# Altium footprint library Discretes.PcbLib: 56 footprints (part 3 of 4)
Each footprint in its own frame and in the unit in brackets; x right, y up, seen from the top. Pads: shape width x height; smd on the part's side, far side on the other; paste and mask are expansions set on the pad; w line width, h text height; cw(c..) or ccw(c..) is an arc to the next point about the centre after c.
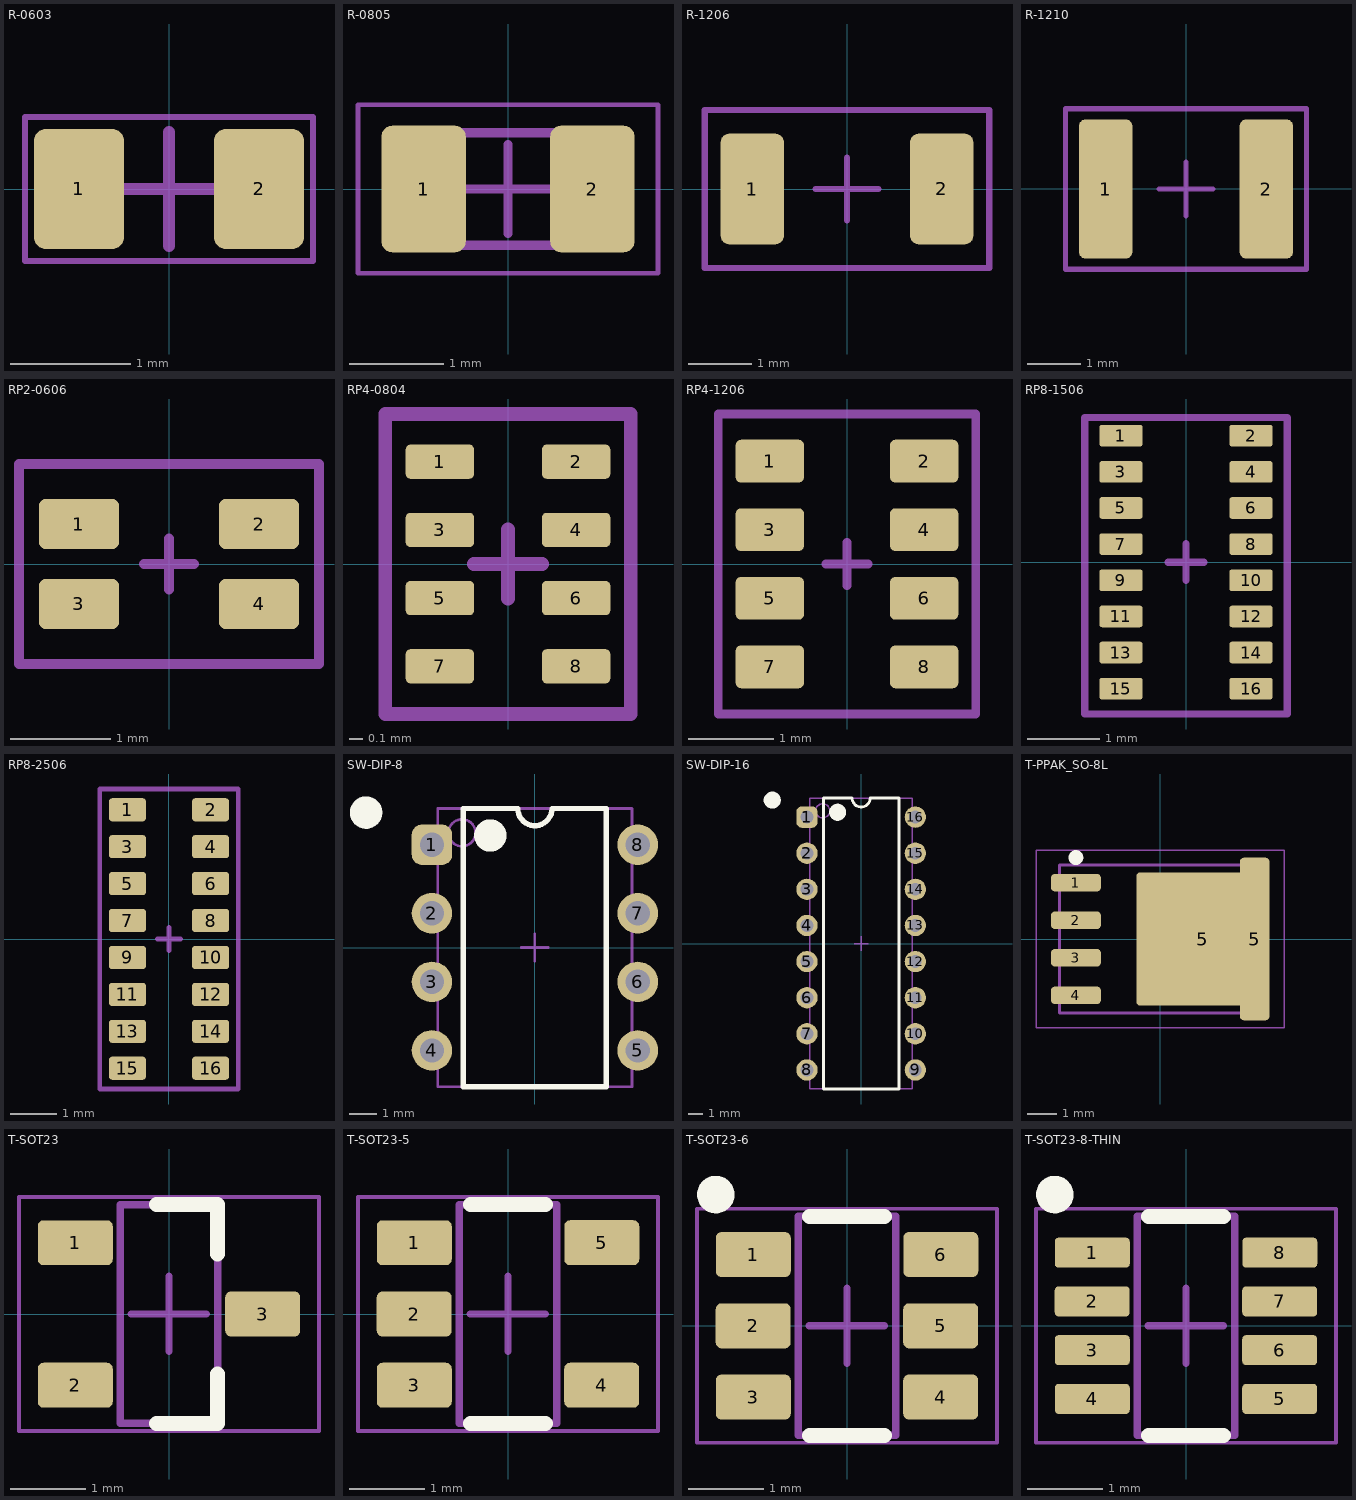
[diagram p2: the footprints below, top view; thin cyan lines are the x and y axes]

## R-0603 [mm] "SMD Resistor 0603"
height 0.5
pads (2):
  rrect25% 0.75x1 smd: 1(-0.75,0) 2(0.75,0)
Mechanical 15:
  lines w0.05: -1.2,-0.6 1.2,-0.6 1.2,0.6 -1.2,0.6 -1.2,-0.6
  lines w0.1: -0.475,0 0.475,0 ; 0,-0.475 0,0.475
3D body "R_0603_1608Metric.step": height 0.45, standoff 0, extent -0.8,-0.4 0.8,0.4

## R-0805 [mm] "SMD Resistor 0805"
height 1
pads (2):
  rrect25% 0.9x1.35 smd: 1(-0.9,0) 2(0.9,0)
Mechanical 13:
  lines w0.1: -1,-0.6 1,-0.6 1,0.6 -1,0.6 -1,-0.6
Mechanical 15:
  lines w0.05: -1.6,-0.9 1.6,-0.9 1.6,0.9 -1.6,0.9 -1.6,-0.9
  lines w0.1: -0.475,0 0.475,0 ; 0,-0.475 0,0.475
3D body "R_0805_2012Metric.step": height 0.45, standoff 0, extent -1,-0.6 1,0.6

## R-1206 [mm] "SMD Resistor 1206"
height 4
pads (2):
  rrect25% 1x1.75 smd: 1(-1.5,0) 2(1.5,0)
Mechanical 15:
  lines w0.1: -0.5,0 0.5,0 ; 0,-0.5 0,0.5 ; -2.25,-1.25 -2.25,1.25 2.25,1.25 2.25,-1.25 -2.25,-1.25
3D body "R_1206_3216Metric.step": height 0.55, standoff 0, extent -1.6,-0.8 1.6,0.8

## R-1210 [mm] "SMD Resistor 1210"
height 4
pads (2):
  rrect25% 1x2.6 smd: 1(-1.5,0) 2(1.5,0)
Mechanical 15:
  lines w0.1: -0.5,0 0.5,0 ; 0,-0.5 0,0.5 ; -2.25,-1.5 -2.25,1.5 2.25,1.5 2.25,-1.5 -2.25,-1.5
3D body "R_1210_3225Metric.step": height 0.55, standoff 0, extent -1.6,-1.25 1.6,1.25

## RP2-0606 [mm] "Resistor Pack, Body 1.6x1.6mm, 2x0603, IPC Medium Density"
height 0.7
pads (4):
  rrect25% 0.8x0.5 smd: 1(-0.9,0.4) 2(0.9,0.4) 3(-0.9,-0.4) 4(0.9,-0.4)
Top Solder:
  region: 1.3,0.5 0.5,0.5 0.5,-0.5 1.3,-0.5
  rectangle: -1.3,-0.5 -0.5,0.5
Mechanical 15:
  lines w0.1: -0.25,0 0.25,0 ; 0,-0.254 0,0.254 ; -1.5,-1 1.5,-1 1.5,1 -1.5,1 -1.5,-1
3D body "User Library-742C043.step": height 0.53, standoff -0.03, extent -0.8,-0.8 0.8,0.8

## RP4-0804 [mm] "Resistor Pack, Body 1.0x2.0mm"
height 0.7
pads (8):
  rrect25% 0.5x0.25 smd: 1(-0.5,0.75) 2(0.5,0.75) 3(-0.5,0.25) 4(0.5,0.25) 5(-0.5,-0.25) 6(0.5,-0.25) 7(-0.5,-0.75) 8(0.5,-0.75)
Mechanical 15:
  lines w0.1: -0.25,0 0.25,0 ; 0,-0.254 0,0.254 ; -0.9,-1.1 -0.9,1.1 0.9,1.1 0.9,-1.1 -0.9,-1.1
3D body "R_Array_Concave_4x0402.step": height 0.45, standoff 0, extent -0.5,-1 0.5,1

## RP4-1206 [mm] "Resistor Pack, Body 1.6x3.2mm, 4x0603, IPC Medium Density"
height 0.7
pads (8):
  rrect25% 0.8x0.5 smd: 1(-0.9,1.2) 2(0.9,1.2) 3(-0.9,0.4) 4(0.9,0.4) 5(-0.9,-0.4) 6(0.9,-0.4) 7(-0.9,-1.2) 8(0.9,-1.2)
Top Solder:
  region: 1.3,1.2 0.5,1.2 0.5,-1.2 1.3,-1.2
  rectangle: -1.3,-1.2 -0.5,1.2
Mechanical 15:
  lines w0.1: -0.25,0 0.25,0 ; 0,-0.254 0,0.254 ; -1.5,-1.75 1.5,-1.75 1.5,1.75 -1.5,1.75 -1.5,-1.75
3D body "User Library-742C083.step": height 0.53, standoff -0.03, extent -0.8,-1.6 0.8,1.6

## RP8-1506 [mm] "Resistor Pack, Body 3.8x1.6mm"
height 0.7
pads (16):
  rrect25% 0.6x0.3 smd: 1(-0.9,1.75) 2(0.9,1.75) 3(-0.9,1.25) 4(0.9,1.25) 5(-0.9,0.75) 6(0.9,0.75) 7(-0.9,0.25) 8(0.9,0.25) 9(-0.9,-0.25) 10(0.9,-0.25) 11(-0.9,-0.75) 12(0.9,-0.75) 13(-0.9,-1.25) 14(0.9,-1.25) 15(-0.9,-1.75) 16(0.9,-1.75)
Mechanical 15:
  lines w0.1: -0.25,0 0.25,0 ; 0,-0.254 0,0.254 ; -1.4,-2.1 -1.4,2 1.4,2 1.4,-2.1 -1.4,-2.1
3D body "User Library-CAC-50P380X160-16N.STEP": height 0.55, standoff 0, extent -0.9,-1.95 0.9,1.95

## RP8-2506 [mm] "Resistor Pack, Body 1.6x3.2mm, 8x0603, IPC Medium Density"
height 0.7
pads (16):
  rrect25% 0.8x0.5 smd: 1(-0.9,2.8) 2(0.9,2.8) 3(-0.9,2) 4(0.9,2) 5(-0.9,1.2) 6(0.9,1.2) 7(-0.9,0.4) 8(0.9,0.4) 9(-0.9,-0.4) 10(0.9,-0.4) 11(-0.9,-1.2) 12(0.9,-1.2) 13(-0.9,-2) 14(0.9,-2) 15(-0.9,-2.8) 16(0.9,-2.8)
Top Solder:
  region: 1.3,3 0.5,3 0.5,-3 1.3,-3
  rectangle: -1.3,-3 -0.5,3
Mechanical 15:
  lines w0.1: -0.25,0 0.25,0 ; 0,-0.254 0,0.254 ; -1.5,-3.25 1.5,-3.25 1.5,3.25 -1.5,3.25 -1.5,-3.25
3D body "User Library-742C163.step": height 0.53, standoff -0.03, extent -0.8,-3.2 0.8,3.2

## SW-DIP-8 [mm]
pads (8):
  rrect50% 1.5x1.5 hole 0.9: 1(-3.81,3.81)
  round 1.5 hole 0.9: 2(-3.81,1.27) 3(-3.81,-1.27) 4(-3.81,-3.81) 5(3.81,-3.81) 6(3.81,-1.27) 7(3.81,1.27) 8(3.81,3.81)
Top Overlay:
  circle w0.6: c-6.25,5 r0.3
  circle w0.6: c-1.65,4.15 r0.3
  lines w0.2: -2.65,-5.15 -2.65,5.15 -0.635,5.15 ccw(c0,5.15) 0.635,5.15 2.65,5.15 2.65,-5.15 -2.65,-5.15
Mechanical 13:
  circle w0.1: c-2.7,4.25 r0.5
  lines w0.1: -3.6,-5.15 -3.6,5.15 3.6,5.15 3.6,-5.15 -3.6,-5.15
Mechanical 15:
  lines w0.1: -0.5,0 0.5,0 ; 0,-0.5 0,0.5
3D body "User Library-DIP SWITCH 4 POS CTS 206.step": height 8.14, standoff -3.5, extent -4.89,-6.17 4.89,6.17

## SW-DIP-16 [mm]
pads (16):
  rrect50% 1.5x1.5 hole 0.9: 1(-3.81,8.89)
  round 1.5 hole 0.9: 2(-3.81,6.35) 3(-3.81,3.81) 4(-3.81,1.27) 5(-3.81,-1.27) 6(-3.81,-3.81) 7(-3.81,-6.35) 8(-3.81,-8.89) 9(3.81,-8.89) 10(3.81,-6.35) 11(3.81,-3.81) 12(3.81,-1.27) 13(3.81,1.27) 14(3.81,3.81) 15(3.81,6.35) 16(3.81,8.89)
Top Overlay:
  circle w0.6: c-1.65,9.23 r0.3
  circle w0.6: c-6.25,10.08 r0.3
  lines w0.2: -2.65,-10.23 2.65,-10.23 2.65,10.23 0.635,10.23 cw(c0,10.23) -0.635,10.23 -2.65,10.23 -2.65,-10.23
Mechanical 13:
  circle w0.1: c-2.7,9.33 r0.5
  lines w0.1: -3.6,-10.23 3.6,-10.23 3.6,10.23 -3.6,10.23 -3.6,-10.23
Mechanical 15:
  lines w0.1: -0.5,0 0.5,0 ; 0,-0.5 0,0.5
3D body "206-8.STEP": height 8.51, standoff -3.81, extent -4.898,-11.331 4.754,11.198

## T-PPAK_SO-8L [mm]
height 1.2
pads (6):
  rrect50% 1.7x0.6 smd: 1(-2.85,1.905) 2(-2.85,0.635) 3(-2.85,-0.635) 4(-2.85,-1.905)
  rrect5% 4.5x4.5 smd: 5(1.45,0)
  rrect25% 1x5.5 smd: 5(3.2,0)
Top Overlay:
  circle w0.25: c-2.85,2.755 r0.125
Mechanical 13:
  lines w0.1: -3.4,-2.5 -3.4,2.5 3.4,2.5 3.4,-2.5 -3.4,-2.5
Mechanical 15:
  lines w0.05: -4.2,-3 -4.2,3 4.2,3 4.2,-3 -4.2,-3
  lines w0.1: -0.5,0 0.5,0 ; 0,-0.5 0,0.5
3D body "DPAK5_P-T1_GE3_VIS.step": height 1.19, standoff -0.01, extent -3.413,-2.502 3.394,2.502

## T-SOT23 [mm] "SOT23 3 Leads"
height 1.2
pads (3):
  rrect25% 1x0.6 smd: 1(-1.25,0.95) 2(-1.25,-0.95) 3(1.25,0)
Top Overlay:
  lines w0.2: -0.165,-1.46 0.65,-1.46 0.65,-0.8 ; -0.165,1.46 0.65,1.46 0.65,0.8
Mechanical 13:
  lines w0.1: -0.65,-1.46 -0.65,1.46 0.65,1.46 0.65,-1.46 -0.65,-1.46
Mechanical 15:
  lines w0.05: -2,-1.56 -2,1.56 2,1.56 2,-1.56 -2,-1.56
  lines w0.1: -0.5,0 0.5,0 ; 0,-0.5 0,0.5
3D body "User Library-SOT23-3.step": height 1.3, standoff 0, extent -1.4,-1.45 1.4,1.45

## T-SOT23-5 [mm] "SOT23 5 Leads"
height 1.2
pads (5):
  rrect25% 1x0.6 smd: 1(-1.25,0.95) 2(-1.25,0) 3(-1.25,-0.95) 4(1.25,-0.95) 5(1.25,0.95)
Top Overlay:
  lines w0.2: -0.5,-1.46 0.5,-1.46 ; -0.5,1.46 0.5,1.46
Mechanical 13:
  lines w0.1: -0.65,-1.46 0.65,-1.46 0.65,1.46 -0.65,1.46 -0.65,-1.46
Mechanical 15:
  lines w0.05: -2,-1.56 2,-1.56 2,1.56 -2,1.56 -2,-1.56
  lines w0.1: -0.5,0 0.5,0 ; 0,-0.5 0,0.5
3D body "SOT-23-5.step": height 1.55, standoff 0, extent -1.4,-1.45 1.4,1.45

## T-SOT23-6 [mm] "SOT23 6 Leads"
height 1.2
pads (6):
  rrect25% 1x0.6 smd: 1(-1.25,0.95) 2(-1.25,0) 3(-1.25,-0.95) 4(1.25,-0.95) 5(1.25,0) 6(1.25,0.95)
Top Overlay:
  circle w0.25: c-1.75,1.75 r0.125
  lines w0.2: -0.5,-1.46 0.5,-1.46 ; -0.5,1.46 0.5,1.46
Mechanical 13:
  lines w0.1: -0.65,-1.46 -0.65,1.46 0.65,1.46 0.65,-1.46 -0.65,-1.46
Mechanical 15:
  lines w0.05: -2,-1.56 -2,1.56 2,1.56 2,-1.56 -2,-1.56
  lines w0.1: -0.5,0 0.5,0 ; 0,-0.5 0,0.5
3D body "SOT-23-6.step": height 1.55, standoff 0, extent -1.4,-1.45 1.4,1.45

## T-SOT23-8-THIN [mm] "SOT23 8 Leads"
height 1.2
pads (8):
  rrect25% 1x0.4 smd: 1(-1.25,0.975) 2(-1.25,0.325) 3(-1.25,-0.325) 4(-1.25,-0.975) 5(1.25,-0.975) 6(1.25,-0.325) 7(1.25,0.325) 8(1.25,0.975)
Top Overlay:
  circle w0.25: c-1.75,1.75 r0.125
  lines w0.2: -0.5,-1.46 0.5,-1.46 ; -0.5,1.46 0.5,1.46
Mechanical 13:
  lines w0.1: -0.65,-1.46 0.65,-1.46 0.65,1.46 -0.65,1.46 -0.65,-1.46
Mechanical 15:
  lines w0.05: -2,-1.56 2,-1.56 2,1.56 -2,1.56 -2,-1.56
  lines w0.1: -0.5,0 0.5,0 ; 0,-0.5 0,0.5
3D body "SOT-23-8.step": height 1.2, standoff 0, extent -1.4,-1.45 1.4,1.45